# Altium footprint library RESC60X30X23L15N.PcbLib: 1 footprints
Each footprint in its own frame and in the unit in brackets; x right, y up, seen from the top. Pads: shape width x height; smd on the part's side, far side on the other; paste and mask are expansions set on the pad; w line width, h text height; cw(c..) or ccw(c..) is an arc to the next point about the centre after c.
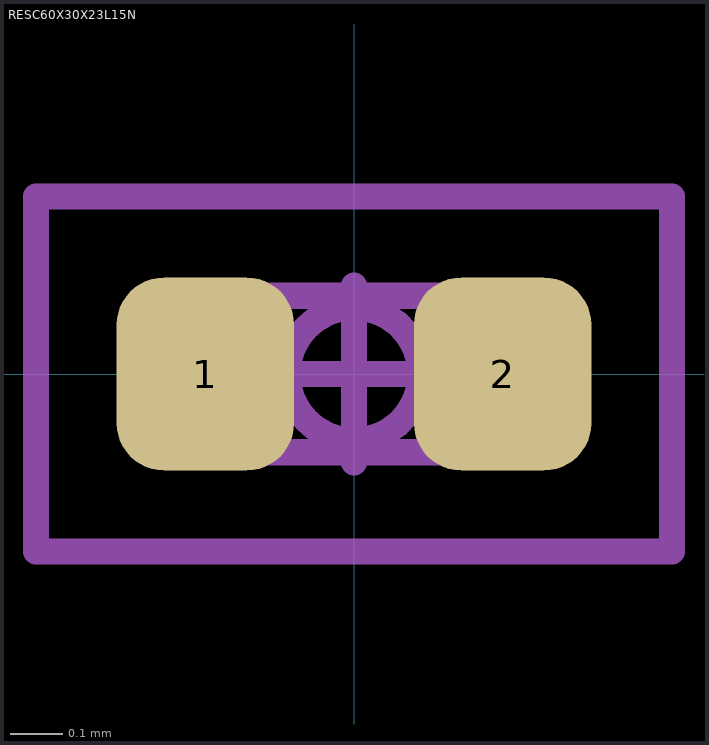
[diagram p0: the footprint, top view; thin cyan lines are the x and y axes]

## RESC60X30X23L15N [mm] "Resistor, Chip; 0.60 mm L X 0.30 mm W X 0.23 mm H body"
height 0.23
pads (2):
  rrect53% 0.34x0.37 smd mask+0.05: 1(-0.285,0) 2(0.285,0)
Mechanical 11:
  lines w0.05: -0.3,-0.15 0.3,-0.15 0.3,0.15 -0.3,0.15 -0.3,-0.15
Mechanical 15:
  circle w0.05: c0,0 r0.128
  lines w0.05: -0.17,0 0.17,0 ; 0,-0.17 0,0.17 ; -0.61,-0.34 0.61,-0.34 0.61,0.34 -0.61,0.34 -0.61,-0.34
3D body "RESC60X30X23L15.STEP": height 0.23, standoff 0, extent -0.3,-0.15 0.3,0.15